# Altium schematic symbol library SOP254P991X385-8N.SchLib: 1 symbol
Pins are listed as number, name and electrical type; pins without a type are passive.

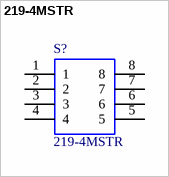
[diagram p0: symbol 219-4MSTR]

## 219-4MSTR
designator S?
DIP Switches / SIP Switches SPST 4 switch sections; Manufacturer_Name: CTS; Geometry.Height: 3.85mm; Manufacturer_Part_Number: 219-4MSTR; RS Part Number: 1774368; RS Price/Stock: http://uk.rs-online.com/web/p/products/1774368; Arrow Part Number: 219-4MSTR; Arrow Price/Stock: https://www.arrow.com/en/products/219-4mstr/cts; Datasheet Link: https://www.ctscorp.com/wp-content/uploads/219.pdf
footprint SOP254P991X385-8N
pins: 1, 2, 3, 4, 5, 6, 7, 8